# EAGLE library part 74LVC1T45 (library maxorig)
74LVC1T45 - Level Shifter High speed bidirectional level shifter. Commonly used for shifting between 3.3V and 5V systems. Good application is for connecting 5V Neopixels to a modern 3.3V microcontroller like the SAMD21. Technical Specifications: VCC: 1.65-5.5V Operating Temperature: -40°C to 85°C Max data rate (3.3V<->5.5V): 420 mbaud DIR pin switches translation direction HIGH = A-->B (A pin is tri-stated) LOW = B-->A (B pin is tri-stated)
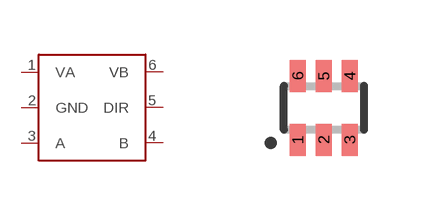
[diagram p1: symbol with the pads of SOT363; footprint SOT363]

Designator prefix -

## 74LVC1T45  [SOT363]
1  VA
2  GND
3  A
4  B
5  DIR
6  VB

## Footprint SOT363 (pad centres in mm)
Small Outline Transistor; 6 leads Philips Semiconductors, SOT363.pdf
smd 0.4 x 0.8: 1 -0.65,-0.8; 2 0,-0.8; 3 0.65,-0.8; 4 0.65,0.8; 5 0,0.8; 6 -0.65,0.8